# Altium footprint library Connector_Samtec_HLE_THT.PcbLib: 141 footprints (part 5 of 9)
Each footprint in its own frame and in the unit in brackets; x right, y up, seen from the top. Pads: shape width x height; smd on the part's side, far side on the other; paste and mask are expansions set on the pad; w line width, h text height; cw(c..) or ccw(c..) is an arc to the next point about the centre after c.
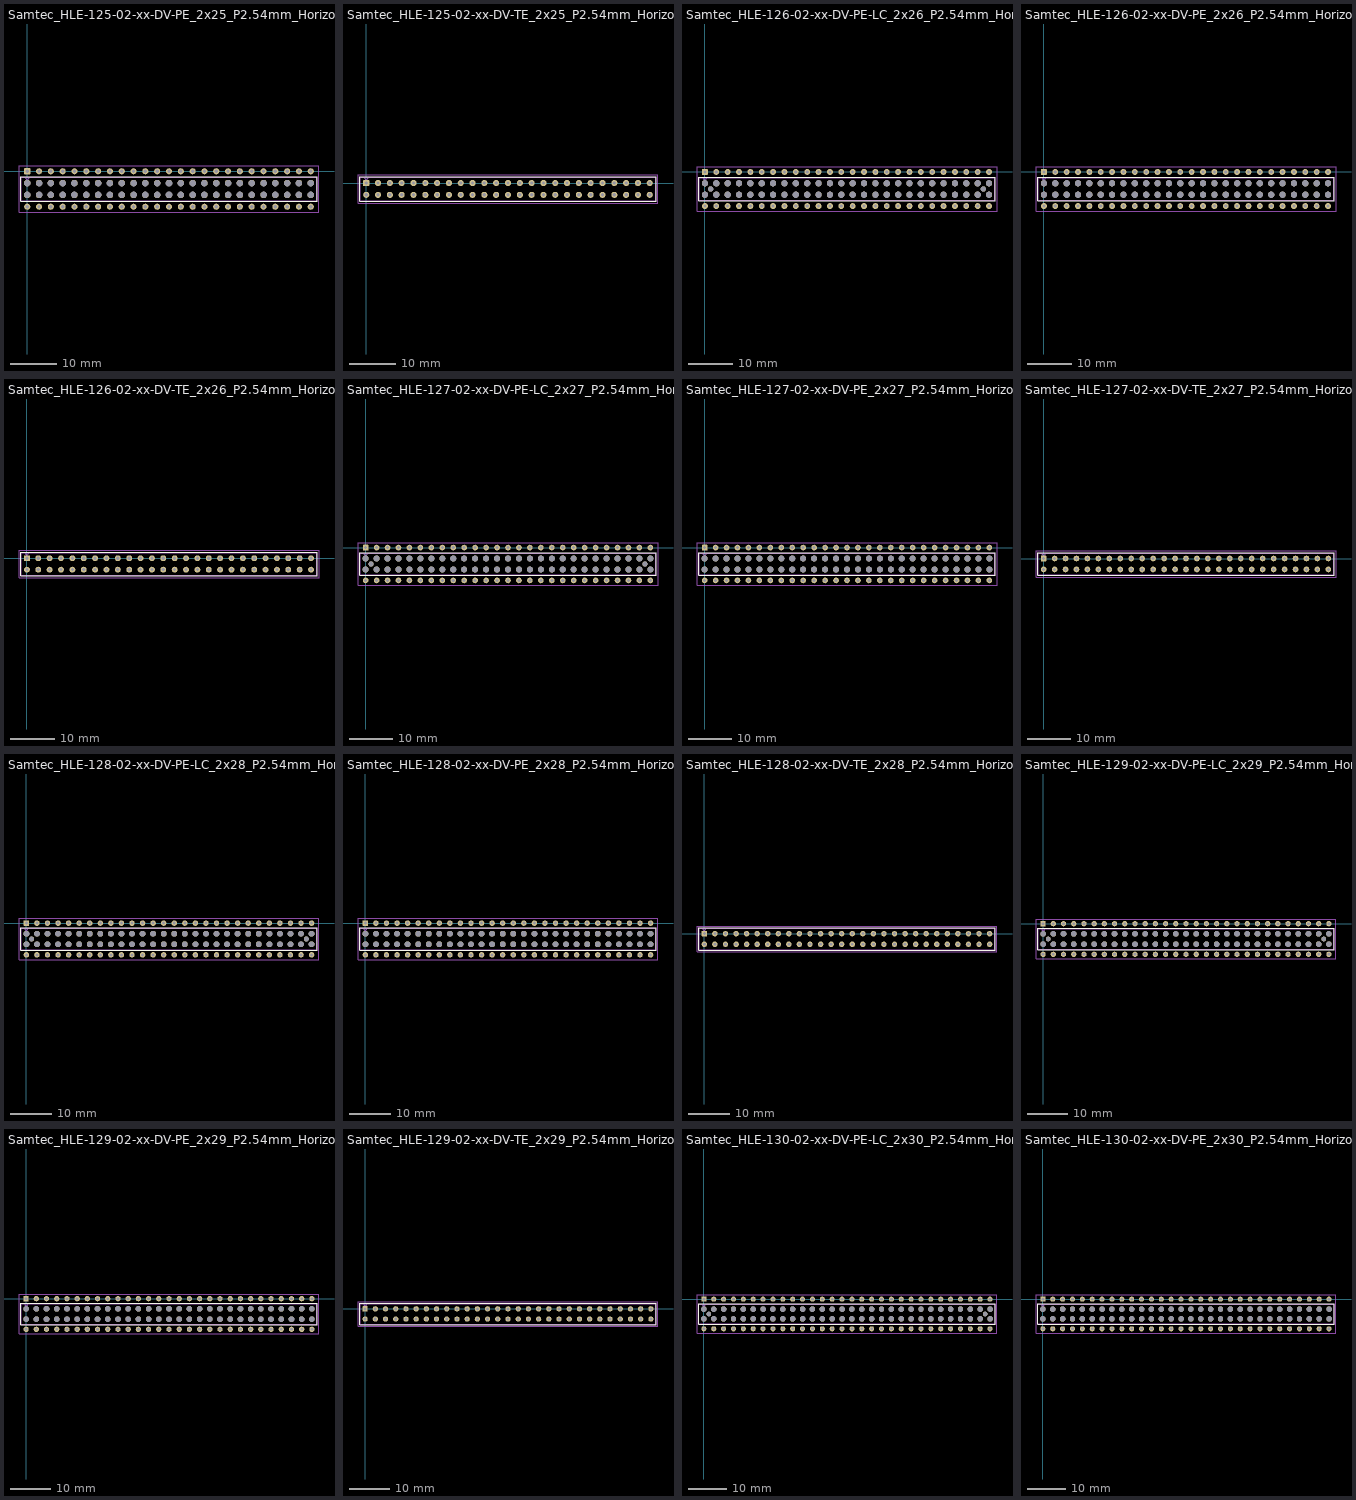
[diagram p4: the footprints below, top view; thin cyan lines are the x and y axes]

## Samtec_HLE-125-02-xx-DV-PE_2x25_P2.54mm_Horizontal [mm]
pads (100):
  rrect19% 1.31x1.31 hole 0.71: 1(0,0)
  round 1.31 hole 0.71: 2(0,-7.62) 3(2.54,0) 4(2.54,-7.62) 5(5.08,0) 6(5.08,-7.62) 7(7.62,0) 8(7.62,-7.62) 9(10.16,0) 10(10.16,-7.62) 11(12.7,0) 12(12.7,-7.62) 13(15.24,0) 14(15.24,-7.62) 15(17.78,0) 16(17.78,-7.62) 17(20.32,0) 18(20.32,-7.62) 19(22.86,0) 20(22.86,-7.62) 21(25.4,0) 22(25.4,-7.62) 23(27.94,0) 24(27.94,-7.62) 25(30.48,0) 26(30.48,-7.62) 27(33.02,0) 28(33.02,-7.62) 29(35.56,0) 30(35.56,-7.62) 31(38.1,0) 32(38.1,-7.62) 33(40.64,0) 34(40.64,-7.62) 35(43.18,0) 36(43.18,-7.62) 37(45.72,0) 38(45.72,-7.62) 39(48.26,0) 40(48.26,-7.62) 41(50.8,0) 42(50.8,-7.62) 43(53.34,0) 44(53.34,-7.62) 45(55.88,0) 46(55.88,-7.62) 47(58.42,0) 48(58.42,-7.62) 49(60.96,0) 50(60.96,-7.62)
  round 1.4 hole 1.4: Un1(0,-2.54) Un2(0,-5.08) Un3(2.54,-2.54) Un4(2.54,-5.08) Un5(5.08,-2.54) Un6(5.08,-5.08) Un7(7.62,-2.54) Un8(7.62,-5.08) Un9(10.16,-2.54) Un10(10.16,-5.08) Un11(12.7,-2.54) Un12(12.7,-5.08) Un13(15.24,-2.54) Un14(15.24,-5.08) Un15(17.78,-2.54) Un16(17.78,-5.08) Un17(20.32,-2.54) Un18(20.32,-5.08) Un19(22.86,-2.54) Un20(22.86,-5.08) Un21(25.4,-2.54) Un22(25.4,-5.08) Un23(27.94,-2.54) Un24(27.94,-5.08) Un25(30.48,-2.54) Un26(30.48,-5.08) Un27(33.02,-2.54) Un28(33.02,-5.08) Un29(35.56,-2.54) Un30(35.56,-5.08) Un31(38.1,-2.54) Un32(38.1,-5.08) Un33(40.64,-2.54) Un34(40.64,-5.08) Un35(43.18,-2.54) Un36(43.18,-5.08) Un37(45.72,-2.54) Un38(45.72,-5.08) Un39(48.26,-2.54) Un40(48.26,-5.08) Un41(50.8,-2.54) Un42(50.8,-5.08) Un43(53.34,-2.54) Un44(53.34,-5.08) Un45(55.88,-2.54) Un46(55.88,-5.08) Un47(58.42,-2.54) Un48(58.42,-5.08) Un49(60.96,-2.54) Un50(60.96,-5.08)
F.SilkS:
  lines w0.254: -1.38,-6.46 62.34,-6.46 62.34,-1.16 -1.38,-1.16 -1.38,-6.46
Top Assembly:
  lines w0.254: -0.5,-1.27 0,-1.977 0.5,-1.27 ; -1.27,-6.35 62.23,-6.35 62.23,-1.27 -1.27,-1.27 -1.27,-6.35
  text "'.Designator'" at 26.433,-6.49 h1
Top Courtyard:
  lines w0.254: -1.77,-8.78 62.73,-8.78 62.73,1.16 -1.77,1.16 -1.77,-8.78
Top Designator:
  text ".Designator" at 22.862,-4.318 h1.52

## Samtec_HLE-125-02-xx-DV-TE_2x25_P2.54mm_Horizontal [mm]
pads (50):
  rrect19% 1.31x1.31 hole 0.71: 1(0,0)
  round 1.31 hole 0.71: 2(0,-2.54) 3(2.54,0) 4(2.54,-2.54) 5(5.08,0) 6(5.08,-2.54) 7(7.62,0) 8(7.62,-2.54) 9(10.16,0) 10(10.16,-2.54) 11(12.7,0) 12(12.7,-2.54) 13(15.24,0) 14(15.24,-2.54) 15(17.78,0) 16(17.78,-2.54) 17(20.32,0) 18(20.32,-2.54) 19(22.86,0) 20(22.86,-2.54) 21(25.4,0) 22(25.4,-2.54) 23(27.94,0) 24(27.94,-2.54) 25(30.48,0) 26(30.48,-2.54) 27(33.02,0) 28(33.02,-2.54) 29(35.56,0) 30(35.56,-2.54) 31(38.1,0) 32(38.1,-2.54) 33(40.64,0) 34(40.64,-2.54) 35(43.18,0) 36(43.18,-2.54) 37(45.72,0) 38(45.72,-2.54) 39(48.26,0) 40(48.26,-2.54) 41(50.8,0) 42(50.8,-2.54) 43(53.34,0) 44(53.34,-2.54) 45(55.88,0) 46(55.88,-2.54) 47(58.42,0) 48(58.42,-2.54) 49(60.96,0) 50(60.96,-2.54)
F.SilkS:
  lines w0.254: -1.38,-3.92 62.34,-3.92 62.34,1.38 -1.38,1.38 -1.38,-3.92
Top Assembly:
  lines w0.254: -0.5,1.27 0,0.563 0.5,1.27 ; -1.27,-3.81 62.23,-3.81 62.23,1.27 -1.27,1.27 -1.27,-3.81
  text "'.Designator'" at 26.433,-3.95 h1
Top Courtyard:
  lines w0.254: -1.77,-4.32 62.73,-4.32 62.73,1.77 -1.77,1.77 -1.77,-4.32
Top Designator:
  text ".Designator" at 22.862,-1.783 h1.52

## Samtec_HLE-126-02-xx-DV-PE-LC_2x26_P2.54mm_Horizontal [mm]
pads (106):
  rrect19% 1.31x1.31 hole 0.71: 1(0,0)
  round 1.31 hole 0.71: 2(0,-7.62) 3(2.54,0) 4(2.54,-7.62) 5(5.08,0) 6(5.08,-7.62) 7(7.62,0) 8(7.62,-7.62) 9(10.16,0) 10(10.16,-7.62) 11(12.7,0) 12(12.7,-7.62) 13(15.24,0) 14(15.24,-7.62) 15(17.78,0) 16(17.78,-7.62) 17(20.32,0) 18(20.32,-7.62) 19(22.86,0) 20(22.86,-7.62) 21(25.4,0) 22(25.4,-7.62) 23(27.94,0) 24(27.94,-7.62) 25(30.48,0) 26(30.48,-7.62) 27(33.02,0) 28(33.02,-7.62) 29(35.56,0) 30(35.56,-7.62) 31(38.1,0) 32(38.1,-7.62) 33(40.64,0) 34(40.64,-7.62) 35(43.18,0) 36(43.18,-7.62) 37(45.72,0) 38(45.72,-7.62) 39(48.26,0) 40(48.26,-7.62) 41(50.8,0) 42(50.8,-7.62) 43(53.34,0) 44(53.34,-7.62) 45(55.88,0) 46(55.88,-7.62) 47(58.42,0) 48(58.42,-7.62) 49(60.96,0) 50(60.96,-7.62) 51(63.5,0) 52(63.5,-7.62)
  round 1.4 hole 1.4: Un1(0,-2.54) Un2(0,-5.08) Un4(2.54,-2.54) Un5(2.54,-5.08) Un6(5.08,-2.54) Un7(5.08,-5.08) Un8(7.62,-2.54) Un9(7.62,-5.08) Un10(10.16,-2.54) Un11(10.16,-5.08) Un12(12.7,-2.54) Un13(12.7,-5.08) Un14(15.24,-2.54) Un15(15.24,-5.08) Un16(17.78,-2.54) Un17(17.78,-5.08) Un18(20.32,-2.54) Un19(20.32,-5.08) Un20(22.86,-2.54) Un21(22.86,-5.08) Un22(25.4,-2.54) Un23(25.4,-5.08) Un24(27.94,-2.54) Un25(27.94,-5.08) Un26(30.48,-2.54) Un27(30.48,-5.08) Un28(33.02,-2.54) Un29(33.02,-5.08) Un30(35.56,-2.54) Un31(35.56,-5.08) Un32(38.1,-2.54) Un33(38.1,-5.08) Un34(40.64,-2.54) Un35(40.64,-5.08) Un36(43.18,-2.54) Un37(43.18,-5.08) Un38(45.72,-2.54) Un39(45.72,-5.08) Un40(48.26,-2.54) Un41(48.26,-5.08) Un42(50.8,-2.54) Un43(50.8,-5.08) Un44(53.34,-2.54) Un45(53.34,-5.08) Un46(55.88,-2.54) Un47(55.88,-5.08) Un48(58.42,-2.54) Un49(58.42,-5.08) Un50(60.96,-2.54) Un51(60.96,-5.08) Un53(63.5,-2.54) Un54(63.5,-5.08)
  round 1.19 hole 1.19: Un3(1.27,-3.81) Un52(62.23,-3.81)
F.SilkS:
  lines w0.254: -1.38,-6.46 64.88,-6.46 64.88,-1.16 -1.38,-1.16 -1.38,-6.46
Top Assembly:
  lines w0.254: -0.5,-1.27 0,-1.977 0.5,-1.27 ; -1.27,-6.35 64.77,-6.35 64.77,-1.27 -1.27,-1.27 -1.27,-6.35
  text "'.Designator'" at 27.703,-6.49 h1
Top Courtyard:
  lines w0.254: -1.77,-8.78 65.28,-8.78 65.28,1.16 -1.77,1.16 -1.77,-8.78
Top Designator:
  text ".Designator" at 24.137,-4.318 h1.52

## Samtec_HLE-126-02-xx-DV-PE_2x26_P2.54mm_Horizontal [mm]
pads (104):
  rrect19% 1.31x1.31 hole 0.71: 1(0,0)
  round 1.31 hole 0.71: 2(0,-7.62) 3(2.54,0) 4(2.54,-7.62) 5(5.08,0) 6(5.08,-7.62) 7(7.62,0) 8(7.62,-7.62) 9(10.16,0) 10(10.16,-7.62) 11(12.7,0) 12(12.7,-7.62) 13(15.24,0) 14(15.24,-7.62) 15(17.78,0) 16(17.78,-7.62) 17(20.32,0) 18(20.32,-7.62) 19(22.86,0) 20(22.86,-7.62) 21(25.4,0) 22(25.4,-7.62) 23(27.94,0) 24(27.94,-7.62) 25(30.48,0) 26(30.48,-7.62) 27(33.02,0) 28(33.02,-7.62) 29(35.56,0) 30(35.56,-7.62) 31(38.1,0) 32(38.1,-7.62) 33(40.64,0) 34(40.64,-7.62) 35(43.18,0) 36(43.18,-7.62) 37(45.72,0) 38(45.72,-7.62) 39(48.26,0) 40(48.26,-7.62) 41(50.8,0) 42(50.8,-7.62) 43(53.34,0) 44(53.34,-7.62) 45(55.88,0) 46(55.88,-7.62) 47(58.42,0) 48(58.42,-7.62) 49(60.96,0) 50(60.96,-7.62) 51(63.5,0) 52(63.5,-7.62)
  round 1.4 hole 1.4: Un1(0,-2.54) Un2(0,-5.08) Un3(2.54,-2.54) Un4(2.54,-5.08) Un5(5.08,-2.54) Un6(5.08,-5.08) Un7(7.62,-2.54) Un8(7.62,-5.08) Un9(10.16,-2.54) Un10(10.16,-5.08) Un11(12.7,-2.54) Un12(12.7,-5.08) Un13(15.24,-2.54) Un14(15.24,-5.08) Un15(17.78,-2.54) Un16(17.78,-5.08) Un17(20.32,-2.54) Un18(20.32,-5.08) Un19(22.86,-2.54) Un20(22.86,-5.08) Un21(25.4,-2.54) Un22(25.4,-5.08) Un23(27.94,-2.54) Un24(27.94,-5.08) Un25(30.48,-2.54) Un26(30.48,-5.08) Un27(33.02,-2.54) Un28(33.02,-5.08) Un29(35.56,-2.54) Un30(35.56,-5.08) Un31(38.1,-2.54) Un32(38.1,-5.08) Un33(40.64,-2.54) Un34(40.64,-5.08) Un35(43.18,-2.54) Un36(43.18,-5.08) Un37(45.72,-2.54) Un38(45.72,-5.08) Un39(48.26,-2.54) Un40(48.26,-5.08) Un41(50.8,-2.54) Un42(50.8,-5.08) Un43(53.34,-2.54) Un44(53.34,-5.08) Un45(55.88,-2.54) Un46(55.88,-5.08) Un47(58.42,-2.54) Un48(58.42,-5.08) Un49(60.96,-2.54) Un50(60.96,-5.08) Un51(63.5,-2.54) Un52(63.5,-5.08)
F.SilkS:
  lines w0.254: -1.38,-6.46 64.88,-6.46 64.88,-1.16 -1.38,-1.16 -1.38,-6.46
Top Assembly:
  lines w0.254: -0.5,-1.27 0,-1.977 0.5,-1.27 ; -1.27,-6.35 64.77,-6.35 64.77,-1.27 -1.27,-1.27 -1.27,-6.35
  text "'.Designator'" at 27.703,-6.49 h1
Top Courtyard:
  lines w0.254: -1.77,-8.78 65.28,-8.78 65.28,1.16 -1.77,1.16 -1.77,-8.78
Top Designator:
  text ".Designator" at 24.137,-4.318 h1.52

## Samtec_HLE-126-02-xx-DV-TE_2x26_P2.54mm_Horizontal [mm]
pads (52):
  rrect19% 1.31x1.31 hole 0.71: 1(0,0)
  round 1.31 hole 0.71: 2(0,-2.54) 3(2.54,0) 4(2.54,-2.54) 5(5.08,0) 6(5.08,-2.54) 7(7.62,0) 8(7.62,-2.54) 9(10.16,0) 10(10.16,-2.54) 11(12.7,0) 12(12.7,-2.54) 13(15.24,0) 14(15.24,-2.54) 15(17.78,0) 16(17.78,-2.54) 17(20.32,0) 18(20.32,-2.54) 19(22.86,0) 20(22.86,-2.54) 21(25.4,0) 22(25.4,-2.54) 23(27.94,0) 24(27.94,-2.54) 25(30.48,0) 26(30.48,-2.54) 27(33.02,0) 28(33.02,-2.54) 29(35.56,0) 30(35.56,-2.54) 31(38.1,0) 32(38.1,-2.54) 33(40.64,0) 34(40.64,-2.54) 35(43.18,0) 36(43.18,-2.54) 37(45.72,0) 38(45.72,-2.54) 39(48.26,0) 40(48.26,-2.54) 41(50.8,0) 42(50.8,-2.54) 43(53.34,0) 44(53.34,-2.54) 45(55.88,0) 46(55.88,-2.54) 47(58.42,0) 48(58.42,-2.54) 49(60.96,0) 50(60.96,-2.54) 51(63.5,0) 52(63.5,-2.54)
F.SilkS:
  lines w0.254: -1.38,-3.92 64.88,-3.92 64.88,1.38 -1.38,1.38 -1.38,-3.92
Top Assembly:
  lines w0.254: -0.5,1.27 0,0.563 0.5,1.27 ; -1.27,-3.81 64.77,-3.81 64.77,1.27 -1.27,1.27 -1.27,-3.81
  text "'.Designator'" at 27.703,-3.95 h1
Top Courtyard:
  lines w0.254: -1.77,-4.32 65.28,-4.32 65.28,1.77 -1.77,1.77 -1.77,-4.32
Top Designator:
  text ".Designator" at 24.137,-1.783 h1.52

## Samtec_HLE-127-02-xx-DV-PE-LC_2x27_P2.54mm_Horizontal [mm]
pads (110):
  rrect19% 1.31x1.31 hole 0.71: 1(0,0)
  round 1.31 hole 0.71: 2(0,-7.62) 3(2.54,0) 4(2.54,-7.62) 5(5.08,0) 6(5.08,-7.62) 7(7.62,0) 8(7.62,-7.62) 9(10.16,0) 10(10.16,-7.62) 11(12.7,0) 12(12.7,-7.62) 13(15.24,0) 14(15.24,-7.62) 15(17.78,0) 16(17.78,-7.62) 17(20.32,0) 18(20.32,-7.62) 19(22.86,0) 20(22.86,-7.62) 21(25.4,0) 22(25.4,-7.62) 23(27.94,0) 24(27.94,-7.62) 25(30.48,0) 26(30.48,-7.62) 27(33.02,0) 28(33.02,-7.62) 29(35.56,0) 30(35.56,-7.62) 31(38.1,0) 32(38.1,-7.62) 33(40.64,0) 34(40.64,-7.62) 35(43.18,0) 36(43.18,-7.62) 37(45.72,0) 38(45.72,-7.62) 39(48.26,0) 40(48.26,-7.62) 41(50.8,0) 42(50.8,-7.62) 43(53.34,0) 44(53.34,-7.62) 45(55.88,0) 46(55.88,-7.62) 47(58.42,0) 48(58.42,-7.62) 49(60.96,0) 50(60.96,-7.62) 51(63.5,0) 52(63.5,-7.62) 53(66.04,0) 54(66.04,-7.62)
  round 1.4 hole 1.4: Un1(0,-2.54) Un2(0,-5.08) Un4(2.54,-2.54) Un5(2.54,-5.08) Un6(5.08,-2.54) Un7(5.08,-5.08) Un8(7.62,-2.54) Un9(7.62,-5.08) Un10(10.16,-2.54) Un11(10.16,-5.08) Un12(12.7,-2.54) Un13(12.7,-5.08) Un14(15.24,-2.54) Un15(15.24,-5.08) Un16(17.78,-2.54) Un17(17.78,-5.08) Un18(20.32,-2.54) Un19(20.32,-5.08) Un20(22.86,-2.54) Un21(22.86,-5.08) Un22(25.4,-2.54) Un23(25.4,-5.08) Un24(27.94,-2.54) Un25(27.94,-5.08) Un26(30.48,-2.54) Un27(30.48,-5.08) Un28(33.02,-2.54) Un29(33.02,-5.08) Un30(35.56,-2.54) Un31(35.56,-5.08) Un32(38.1,-2.54) Un33(38.1,-5.08) Un34(40.64,-2.54) Un35(40.64,-5.08) Un36(43.18,-2.54) Un37(43.18,-5.08) Un38(45.72,-2.54) Un39(45.72,-5.08) Un40(48.26,-2.54) Un41(48.26,-5.08) Un42(50.8,-2.54) Un43(50.8,-5.08) Un44(53.34,-2.54) Un45(53.34,-5.08) Un46(55.88,-2.54) Un47(55.88,-5.08) Un48(58.42,-2.54) Un49(58.42,-5.08) Un50(60.96,-2.54) Un51(60.96,-5.08) Un52(63.5,-2.54) Un53(63.5,-5.08) Un55(66.04,-2.54) Un56(66.04,-5.08)
  round 1.19 hole 1.19: Un3(1.27,-3.81) Un54(64.77,-3.81)
F.SilkS:
  lines w0.254: -1.38,-6.46 67.42,-6.46 67.42,-1.16 -1.38,-1.16 -1.38,-6.46
Top Assembly:
  lines w0.254: -0.5,-1.27 0,-1.977 0.5,-1.27 ; -1.27,-6.35 67.31,-6.35 67.31,-1.27 -1.27,-1.27 -1.27,-6.35
  text "'.Designator'" at 28.973,-6.49 h1
Top Courtyard:
  lines w0.254: -1.77,-8.78 67.81,-8.78 67.81,1.16 -1.77,1.16 -1.77,-8.78
Top Designator:
  text ".Designator" at 25.402,-4.318 h1.52

## Samtec_HLE-127-02-xx-DV-PE_2x27_P2.54mm_Horizontal [mm]
pads (108):
  rrect19% 1.31x1.31 hole 0.71: 1(0,0)
  round 1.31 hole 0.71: 2(0,-7.62) 3(2.54,0) 4(2.54,-7.62) 5(5.08,0) 6(5.08,-7.62) 7(7.62,0) 8(7.62,-7.62) 9(10.16,0) 10(10.16,-7.62) 11(12.7,0) 12(12.7,-7.62) 13(15.24,0) 14(15.24,-7.62) 15(17.78,0) 16(17.78,-7.62) 17(20.32,0) 18(20.32,-7.62) 19(22.86,0) 20(22.86,-7.62) 21(25.4,0) 22(25.4,-7.62) 23(27.94,0) 24(27.94,-7.62) 25(30.48,0) 26(30.48,-7.62) 27(33.02,0) 28(33.02,-7.62) 29(35.56,0) 30(35.56,-7.62) 31(38.1,0) 32(38.1,-7.62) 33(40.64,0) 34(40.64,-7.62) 35(43.18,0) 36(43.18,-7.62) 37(45.72,0) 38(45.72,-7.62) 39(48.26,0) 40(48.26,-7.62) 41(50.8,0) 42(50.8,-7.62) 43(53.34,0) 44(53.34,-7.62) 45(55.88,0) 46(55.88,-7.62) 47(58.42,0) 48(58.42,-7.62) 49(60.96,0) 50(60.96,-7.62) 51(63.5,0) 52(63.5,-7.62) 53(66.04,0) 54(66.04,-7.62)
  round 1.4 hole 1.4: Un1(0,-2.54) Un2(0,-5.08) Un3(2.54,-2.54) Un4(2.54,-5.08) Un5(5.08,-2.54) Un6(5.08,-5.08) Un7(7.62,-2.54) Un8(7.62,-5.08) Un9(10.16,-2.54) Un10(10.16,-5.08) Un11(12.7,-2.54) Un12(12.7,-5.08) Un13(15.24,-2.54) Un14(15.24,-5.08) Un15(17.78,-2.54) Un16(17.78,-5.08) Un17(20.32,-2.54) Un18(20.32,-5.08) Un19(22.86,-2.54) Un20(22.86,-5.08) Un21(25.4,-2.54) Un22(25.4,-5.08) Un23(27.94,-2.54) Un24(27.94,-5.08) Un25(30.48,-2.54) Un26(30.48,-5.08) Un27(33.02,-2.54) Un28(33.02,-5.08) Un29(35.56,-2.54) Un30(35.56,-5.08) Un31(38.1,-2.54) Un32(38.1,-5.08) Un33(40.64,-2.54) Un34(40.64,-5.08) Un35(43.18,-2.54) Un36(43.18,-5.08) Un37(45.72,-2.54) Un38(45.72,-5.08) Un39(48.26,-2.54) Un40(48.26,-5.08) Un41(50.8,-2.54) Un42(50.8,-5.08) Un43(53.34,-2.54) Un44(53.34,-5.08) Un45(55.88,-2.54) Un46(55.88,-5.08) Un47(58.42,-2.54) Un48(58.42,-5.08) Un49(60.96,-2.54) Un50(60.96,-5.08) Un51(63.5,-2.54) Un52(63.5,-5.08) Un53(66.04,-2.54) Un54(66.04,-5.08)
F.SilkS:
  lines w0.254: -1.38,-6.46 67.42,-6.46 67.42,-1.16 -1.38,-1.16 -1.38,-6.46
Top Assembly:
  lines w0.254: -0.5,-1.27 0,-1.977 0.5,-1.27 ; -1.27,-6.35 67.31,-6.35 67.31,-1.27 -1.27,-1.27 -1.27,-6.35
  text "'.Designator'" at 28.973,-6.49 h1
Top Courtyard:
  lines w0.254: -1.77,-8.78 67.81,-8.78 67.81,1.16 -1.77,1.16 -1.77,-8.78
Top Designator:
  text ".Designator" at 25.402,-4.318 h1.52

## Samtec_HLE-127-02-xx-DV-TE_2x27_P2.54mm_Horizontal [mm]
pads (54):
  rrect19% 1.31x1.31 hole 0.71: 1(0,0)
  round 1.31 hole 0.71: 2(0,-2.54) 3(2.54,0) 4(2.54,-2.54) 5(5.08,0) 6(5.08,-2.54) 7(7.62,0) 8(7.62,-2.54) 9(10.16,0) 10(10.16,-2.54) 11(12.7,0) 12(12.7,-2.54) 13(15.24,0) 14(15.24,-2.54) 15(17.78,0) 16(17.78,-2.54) 17(20.32,0) 18(20.32,-2.54) 19(22.86,0) 20(22.86,-2.54) 21(25.4,0) 22(25.4,-2.54) 23(27.94,0) 24(27.94,-2.54) 25(30.48,0) 26(30.48,-2.54) 27(33.02,0) 28(33.02,-2.54) 29(35.56,0) 30(35.56,-2.54) 31(38.1,0) 32(38.1,-2.54) 33(40.64,0) 34(40.64,-2.54) 35(43.18,0) 36(43.18,-2.54) 37(45.72,0) 38(45.72,-2.54) 39(48.26,0) 40(48.26,-2.54) 41(50.8,0) 42(50.8,-2.54) 43(53.34,0) 44(53.34,-2.54) 45(55.88,0) 46(55.88,-2.54) 47(58.42,0) 48(58.42,-2.54) 49(60.96,0) 50(60.96,-2.54) 51(63.5,0) 52(63.5,-2.54) 53(66.04,0) 54(66.04,-2.54)
F.SilkS:
  lines w0.254: -1.38,-3.92 67.42,-3.92 67.42,1.38 -1.38,1.38 -1.38,-3.92
Top Assembly:
  lines w0.254: -0.5,1.27 0,0.563 0.5,1.27 ; -1.27,-3.81 67.31,-3.81 67.31,1.27 -1.27,1.27 -1.27,-3.81
  text "'.Designator'" at 28.973,-3.95 h1
Top Courtyard:
  lines w0.254: -1.77,-4.32 67.81,-4.32 67.81,1.77 -1.77,1.77 -1.77,-4.32
Top Designator:
  text ".Designator" at 25.402,-1.783 h1.52

## Samtec_HLE-128-02-xx-DV-PE-LC_2x28_P2.54mm_Horizontal [mm]
pads (114):
  rrect19% 1.31x1.31 hole 0.71: 1(0,0)
  round 1.31 hole 0.71: 2(0,-7.62) 3(2.54,0) 4(2.54,-7.62) 5(5.08,0) 6(5.08,-7.62) 7(7.62,0) 8(7.62,-7.62) 9(10.16,0) 10(10.16,-7.62) 11(12.7,0) 12(12.7,-7.62) 13(15.24,0) 14(15.24,-7.62) 15(17.78,0) 16(17.78,-7.62) 17(20.32,0) 18(20.32,-7.62) 19(22.86,0) 20(22.86,-7.62) 21(25.4,0) 22(25.4,-7.62) 23(27.94,0) 24(27.94,-7.62) 25(30.48,0) 26(30.48,-7.62) 27(33.02,0) 28(33.02,-7.62) 29(35.56,0) 30(35.56,-7.62) 31(38.1,0) 32(38.1,-7.62) 33(40.64,0) 34(40.64,-7.62) 35(43.18,0) 36(43.18,-7.62) 37(45.72,0) 38(45.72,-7.62) 39(48.26,0) 40(48.26,-7.62) 41(50.8,0) 42(50.8,-7.62) 43(53.34,0) 44(53.34,-7.62) 45(55.88,0) 46(55.88,-7.62) 47(58.42,0) 48(58.42,-7.62) 49(60.96,0) 50(60.96,-7.62) 51(63.5,0) 52(63.5,-7.62) 53(66.04,0) 54(66.04,-7.62) 55(68.58,0) 56(68.58,-7.62)
  round 1.4 hole 1.4: Un1(0,-2.54) Un2(0,-5.08) Un4(2.54,-2.54) Un5(2.54,-5.08) Un6(5.08,-2.54) Un7(5.08,-5.08) Un8(7.62,-2.54) Un9(7.62,-5.08) Un10(10.16,-2.54) Un11(10.16,-5.08) Un12(12.7,-2.54) Un13(12.7,-5.08) Un14(15.24,-2.54) Un15(15.24,-5.08) Un16(17.78,-2.54) Un17(17.78,-5.08) Un18(20.32,-2.54) Un19(20.32,-5.08) Un20(22.86,-2.54) Un21(22.86,-5.08) Un22(25.4,-2.54) Un23(25.4,-5.08) Un24(27.94,-2.54) Un25(27.94,-5.08) Un26(30.48,-2.54) Un27(30.48,-5.08) Un28(33.02,-2.54) Un29(33.02,-5.08) Un30(35.56,-2.54) Un31(35.56,-5.08) Un32(38.1,-2.54) Un33(38.1,-5.08) Un34(40.64,-2.54) Un35(40.64,-5.08) Un36(43.18,-2.54) Un37(43.18,-5.08) Un38(45.72,-2.54) Un39(45.72,-5.08) Un40(48.26,-2.54) Un41(48.26,-5.08) Un42(50.8,-2.54) Un43(50.8,-5.08) Un44(53.34,-2.54) Un45(53.34,-5.08) Un46(55.88,-2.54) Un47(55.88,-5.08) Un48(58.42,-2.54) Un49(58.42,-5.08) Un50(60.96,-2.54) Un51(60.96,-5.08) Un52(63.5,-2.54) Un53(63.5,-5.08) Un54(66.04,-2.54) Un55(66.04,-5.08) Un57(68.58,-2.54) Un58(68.58,-5.08)
  round 1.19 hole 1.19: Un3(1.27,-3.81) Un56(67.31,-3.81)
F.SilkS:
  lines w0.254: -1.38,-6.46 69.96,-6.46 69.96,-1.16 -1.38,-1.16 -1.38,-6.46
Top Assembly:
  lines w0.254: -0.5,-1.27 0,-1.977 0.5,-1.27 ; -1.27,-6.35 69.85,-6.35 69.85,-1.27 -1.27,-1.27 -1.27,-6.35
  text "'.Designator'" at 30.243,-6.49 h1
Top Courtyard:
  lines w0.254: -1.77,-8.78 70.36,-8.78 70.36,1.16 -1.77,1.16 -1.77,-8.78
Top Designator:
  text ".Designator" at 26.677,-4.318 h1.52

## Samtec_HLE-128-02-xx-DV-PE_2x28_P2.54mm_Horizontal [mm]
pads (112):
  rrect19% 1.31x1.31 hole 0.71: 1(0,0)
  round 1.31 hole 0.71: 2(0,-7.62) 3(2.54,0) 4(2.54,-7.62) 5(5.08,0) 6(5.08,-7.62) 7(7.62,0) 8(7.62,-7.62) 9(10.16,0) 10(10.16,-7.62) 11(12.7,0) 12(12.7,-7.62) 13(15.24,0) 14(15.24,-7.62) 15(17.78,0) 16(17.78,-7.62) 17(20.32,0) 18(20.32,-7.62) 19(22.86,0) 20(22.86,-7.62) 21(25.4,0) 22(25.4,-7.62) 23(27.94,0) 24(27.94,-7.62) 25(30.48,0) 26(30.48,-7.62) 27(33.02,0) 28(33.02,-7.62) 29(35.56,0) 30(35.56,-7.62) 31(38.1,0) 32(38.1,-7.62) 33(40.64,0) 34(40.64,-7.62) 35(43.18,0) 36(43.18,-7.62) 37(45.72,0) 38(45.72,-7.62) 39(48.26,0) 40(48.26,-7.62) 41(50.8,0) 42(50.8,-7.62) 43(53.34,0) 44(53.34,-7.62) 45(55.88,0) 46(55.88,-7.62) 47(58.42,0) 48(58.42,-7.62) 49(60.96,0) 50(60.96,-7.62) 51(63.5,0) 52(63.5,-7.62) 53(66.04,0) 54(66.04,-7.62) 55(68.58,0) 56(68.58,-7.62)
  round 1.4 hole 1.4: Un1(0,-2.54) Un2(0,-5.08) Un3(2.54,-2.54) Un4(2.54,-5.08) Un5(5.08,-2.54) Un6(5.08,-5.08) Un7(7.62,-2.54) Un8(7.62,-5.08) Un9(10.16,-2.54) Un10(10.16,-5.08) Un11(12.7,-2.54) Un12(12.7,-5.08) Un13(15.24,-2.54) Un14(15.24,-5.08) Un15(17.78,-2.54) Un16(17.78,-5.08) Un17(20.32,-2.54) Un18(20.32,-5.08) Un19(22.86,-2.54) Un20(22.86,-5.08) Un21(25.4,-2.54) Un22(25.4,-5.08) Un23(27.94,-2.54) Un24(27.94,-5.08) Un25(30.48,-2.54) Un26(30.48,-5.08) Un27(33.02,-2.54) Un28(33.02,-5.08) Un29(35.56,-2.54) Un30(35.56,-5.08) Un31(38.1,-2.54) Un32(38.1,-5.08) Un33(40.64,-2.54) Un34(40.64,-5.08) Un35(43.18,-2.54) Un36(43.18,-5.08) Un37(45.72,-2.54) Un38(45.72,-5.08) Un39(48.26,-2.54) Un40(48.26,-5.08) Un41(50.8,-2.54) Un42(50.8,-5.08) Un43(53.34,-2.54) Un44(53.34,-5.08) Un45(55.88,-2.54) Un46(55.88,-5.08) Un47(58.42,-2.54) Un48(58.42,-5.08) Un49(60.96,-2.54) Un50(60.96,-5.08) Un51(63.5,-2.54) Un52(63.5,-5.08) Un53(66.04,-2.54) Un54(66.04,-5.08) Un55(68.58,-2.54) Un56(68.58,-5.08)
F.SilkS:
  lines w0.254: -1.38,-6.46 69.96,-6.46 69.96,-1.16 -1.38,-1.16 -1.38,-6.46
Top Assembly:
  lines w0.254: -0.5,-1.27 0,-1.977 0.5,-1.27 ; -1.27,-6.35 69.85,-6.35 69.85,-1.27 -1.27,-1.27 -1.27,-6.35
  text "'.Designator'" at 30.243,-6.49 h1
Top Courtyard:
  lines w0.254: -1.77,-8.78 70.36,-8.78 70.36,1.16 -1.77,1.16 -1.77,-8.78
Top Designator:
  text ".Designator" at 26.677,-4.318 h1.52

## Samtec_HLE-128-02-xx-DV-TE_2x28_P2.54mm_Horizontal [mm]
pads (56):
  rrect19% 1.31x1.31 hole 0.71: 1(0,0)
  round 1.31 hole 0.71: 2(0,-2.54) 3(2.54,0) 4(2.54,-2.54) 5(5.08,0) 6(5.08,-2.54) 7(7.62,0) 8(7.62,-2.54) 9(10.16,0) 10(10.16,-2.54) 11(12.7,0) 12(12.7,-2.54) 13(15.24,0) 14(15.24,-2.54) 15(17.78,0) 16(17.78,-2.54) 17(20.32,0) 18(20.32,-2.54) 19(22.86,0) 20(22.86,-2.54) 21(25.4,0) 22(25.4,-2.54) 23(27.94,0) 24(27.94,-2.54) 25(30.48,0) 26(30.48,-2.54) 27(33.02,0) 28(33.02,-2.54) 29(35.56,0) 30(35.56,-2.54) 31(38.1,0) 32(38.1,-2.54) 33(40.64,0) 34(40.64,-2.54) 35(43.18,0) 36(43.18,-2.54) 37(45.72,0) 38(45.72,-2.54) 39(48.26,0) 40(48.26,-2.54) 41(50.8,0) 42(50.8,-2.54) 43(53.34,0) 44(53.34,-2.54) 45(55.88,0) 46(55.88,-2.54) 47(58.42,0) 48(58.42,-2.54) 49(60.96,0) 50(60.96,-2.54) 51(63.5,0) 52(63.5,-2.54) 53(66.04,0) 54(66.04,-2.54) 55(68.58,0) 56(68.58,-2.54)
F.SilkS:
  lines w0.254: -1.38,-3.92 69.96,-3.92 69.96,1.38 -1.38,1.38 -1.38,-3.92
Top Assembly:
  lines w0.254: -0.5,1.27 0,0.563 0.5,1.27 ; -1.27,-3.81 69.85,-3.81 69.85,1.27 -1.27,1.27 -1.27,-3.81
  text "'.Designator'" at 30.243,-3.95 h1
Top Courtyard:
  lines w0.254: -1.77,-4.32 70.36,-4.32 70.36,1.77 -1.77,1.77 -1.77,-4.32
Top Designator:
  text ".Designator" at 26.677,-1.783 h1.52

## Samtec_HLE-129-02-xx-DV-PE-LC_2x29_P2.54mm_Horizontal [mm]
pads (118):
  rrect19% 1.31x1.31 hole 0.71: 1(0,0)
  round 1.31 hole 0.71: 2(0,-7.62) 3(2.54,0) 4(2.54,-7.62) 5(5.08,0) 6(5.08,-7.62) 7(7.62,0) 8(7.62,-7.62) 9(10.16,0) 10(10.16,-7.62) 11(12.7,0) 12(12.7,-7.62) 13(15.24,0) 14(15.24,-7.62) 15(17.78,0) 16(17.78,-7.62) 17(20.32,0) 18(20.32,-7.62) 19(22.86,0) 20(22.86,-7.62) 21(25.4,0) 22(25.4,-7.62) 23(27.94,0) 24(27.94,-7.62) 25(30.48,0) 26(30.48,-7.62) 27(33.02,0) 28(33.02,-7.62) 29(35.56,0) 30(35.56,-7.62) 31(38.1,0) 32(38.1,-7.62) 33(40.64,0) 34(40.64,-7.62) 35(43.18,0) 36(43.18,-7.62) 37(45.72,0) 38(45.72,-7.62) 39(48.26,0) 40(48.26,-7.62) 41(50.8,0) 42(50.8,-7.62) 43(53.34,0) 44(53.34,-7.62) 45(55.88,0) 46(55.88,-7.62) 47(58.42,0) 48(58.42,-7.62) 49(60.96,0) 50(60.96,-7.62) 51(63.5,0) 52(63.5,-7.62) 53(66.04,0) 54(66.04,-7.62) 55(68.58,0) 56(68.58,-7.62) 57(71.12,0) 58(71.12,-7.62)
  round 1.4 hole 1.4: Un1(0,-2.54) Un2(0,-5.08) Un4(2.54,-2.54) Un5(2.54,-5.08) Un6(5.08,-2.54) Un7(5.08,-5.08) Un8(7.62,-2.54) Un9(7.62,-5.08) Un10(10.16,-2.54) Un11(10.16,-5.08) Un12(12.7,-2.54) Un13(12.7,-5.08) Un14(15.24,-2.54) Un15(15.24,-5.08) Un16(17.78,-2.54) Un17(17.78,-5.08) Un18(20.32,-2.54) Un19(20.32,-5.08) Un20(22.86,-2.54) Un21(22.86,-5.08) Un22(25.4,-2.54) Un23(25.4,-5.08) Un24(27.94,-2.54) Un25(27.94,-5.08) Un26(30.48,-2.54) Un27(30.48,-5.08) Un28(33.02,-2.54) Un29(33.02,-5.08) Un30(35.56,-2.54) Un31(35.56,-5.08) Un32(38.1,-2.54) Un33(38.1,-5.08) Un34(40.64,-2.54) Un35(40.64,-5.08) Un36(43.18,-2.54) Un37(43.18,-5.08) Un38(45.72,-2.54) Un39(45.72,-5.08) Un40(48.26,-2.54) Un41(48.26,-5.08) Un42(50.8,-2.54) Un43(50.8,-5.08) Un44(53.34,-2.54) Un45(53.34,-5.08) Un46(55.88,-2.54) Un47(55.88,-5.08) Un48(58.42,-2.54) Un49(58.42,-5.08) Un50(60.96,-2.54) Un51(60.96,-5.08) Un52(63.5,-2.54) Un53(63.5,-5.08) Un54(66.04,-2.54) Un55(66.04,-5.08) Un56(68.58,-2.54) Un57(68.58,-5.08) Un59(71.12,-2.54) Un60(71.12,-5.08)
  round 1.19 hole 1.19: Un3(1.27,-3.81) Un58(69.85,-3.81)
F.SilkS:
  lines w0.254: -1.38,-6.46 72.5,-6.46 72.5,-1.16 -1.38,-1.16 -1.38,-6.46
Top Assembly:
  lines w0.254: -0.5,-1.27 0,-1.977 0.5,-1.27 ; -1.27,-6.35 72.39,-6.35 72.39,-1.27 -1.27,-1.27 -1.27,-6.35
  text "'.Designator'" at 31.513,-6.49 h1
Top Courtyard:
  lines w0.254: -1.77,-8.78 72.89,-8.78 72.89,1.16 -1.77,1.16 -1.77,-8.78
Top Designator:
  text ".Designator" at 27.942,-4.318 h1.52

## Samtec_HLE-129-02-xx-DV-PE_2x29_P2.54mm_Horizontal [mm]
pads (116):
  rrect19% 1.31x1.31 hole 0.71: 1(0,0)
  round 1.31 hole 0.71: 2(0,-7.62) 3(2.54,0) 4(2.54,-7.62) 5(5.08,0) 6(5.08,-7.62) 7(7.62,0) 8(7.62,-7.62) 9(10.16,0) 10(10.16,-7.62) 11(12.7,0) 12(12.7,-7.62) 13(15.24,0) 14(15.24,-7.62) 15(17.78,0) 16(17.78,-7.62) 17(20.32,0) 18(20.32,-7.62) 19(22.86,0) 20(22.86,-7.62) 21(25.4,0) 22(25.4,-7.62) 23(27.94,0) 24(27.94,-7.62) 25(30.48,0) 26(30.48,-7.62) 27(33.02,0) 28(33.02,-7.62) 29(35.56,0) 30(35.56,-7.62) 31(38.1,0) 32(38.1,-7.62) 33(40.64,0) 34(40.64,-7.62) 35(43.18,0) 36(43.18,-7.62) 37(45.72,0) 38(45.72,-7.62) 39(48.26,0) 40(48.26,-7.62) 41(50.8,0) 42(50.8,-7.62) 43(53.34,0) 44(53.34,-7.62) 45(55.88,0) 46(55.88,-7.62) 47(58.42,0) 48(58.42,-7.62) 49(60.96,0) 50(60.96,-7.62) 51(63.5,0) 52(63.5,-7.62) 53(66.04,0) 54(66.04,-7.62) 55(68.58,0) 56(68.58,-7.62) 57(71.12,0) 58(71.12,-7.62)
  round 1.4 hole 1.4: Un1(0,-2.54) Un2(0,-5.08) Un3(2.54,-2.54) Un4(2.54,-5.08) Un5(5.08,-2.54) Un6(5.08,-5.08) Un7(7.62,-2.54) Un8(7.62,-5.08) Un9(10.16,-2.54) Un10(10.16,-5.08) Un11(12.7,-2.54) Un12(12.7,-5.08) Un13(15.24,-2.54) Un14(15.24,-5.08) Un15(17.78,-2.54) Un16(17.78,-5.08) Un17(20.32,-2.54) Un18(20.32,-5.08) Un19(22.86,-2.54) Un20(22.86,-5.08) Un21(25.4,-2.54) Un22(25.4,-5.08) Un23(27.94,-2.54) Un24(27.94,-5.08) Un25(30.48,-2.54) Un26(30.48,-5.08) Un27(33.02,-2.54) Un28(33.02,-5.08) Un29(35.56,-2.54) Un30(35.56,-5.08) Un31(38.1,-2.54) Un32(38.1,-5.08) Un33(40.64,-2.54) Un34(40.64,-5.08) Un35(43.18,-2.54) Un36(43.18,-5.08) Un37(45.72,-2.54) Un38(45.72,-5.08) Un39(48.26,-2.54) Un40(48.26,-5.08) Un41(50.8,-2.54) Un42(50.8,-5.08) Un43(53.34,-2.54) Un44(53.34,-5.08) Un45(55.88,-2.54) Un46(55.88,-5.08) Un47(58.42,-2.54) Un48(58.42,-5.08) Un49(60.96,-2.54) Un50(60.96,-5.08) Un51(63.5,-2.54) Un52(63.5,-5.08) Un53(66.04,-2.54) Un54(66.04,-5.08) Un55(68.58,-2.54) Un56(68.58,-5.08) Un57(71.12,-2.54) Un58(71.12,-5.08)
F.SilkS:
  lines w0.254: -1.38,-6.46 72.5,-6.46 72.5,-1.16 -1.38,-1.16 -1.38,-6.46
Top Assembly:
  lines w0.254: -0.5,-1.27 0,-1.977 0.5,-1.27 ; -1.27,-6.35 72.39,-6.35 72.39,-1.27 -1.27,-1.27 -1.27,-6.35
  text "'.Designator'" at 31.513,-6.49 h1
Top Courtyard:
  lines w0.254: -1.77,-8.78 72.89,-8.78 72.89,1.16 -1.77,1.16 -1.77,-8.78
Top Designator:
  text ".Designator" at 27.942,-4.318 h1.52

## Samtec_HLE-129-02-xx-DV-TE_2x29_P2.54mm_Horizontal [mm]
pads (58):
  rrect19% 1.31x1.31 hole 0.71: 1(0,0)
  round 1.31 hole 0.71: 2(0,-2.54) 3(2.54,0) 4(2.54,-2.54) 5(5.08,0) 6(5.08,-2.54) 7(7.62,0) 8(7.62,-2.54) 9(10.16,0) 10(10.16,-2.54) 11(12.7,0) 12(12.7,-2.54) 13(15.24,0) 14(15.24,-2.54) 15(17.78,0) 16(17.78,-2.54) 17(20.32,0) 18(20.32,-2.54) 19(22.86,0) 20(22.86,-2.54) 21(25.4,0) 22(25.4,-2.54) 23(27.94,0) 24(27.94,-2.54) 25(30.48,0) 26(30.48,-2.54) 27(33.02,0) 28(33.02,-2.54) 29(35.56,0) 30(35.56,-2.54) 31(38.1,0) 32(38.1,-2.54) 33(40.64,0) 34(40.64,-2.54) 35(43.18,0) 36(43.18,-2.54) 37(45.72,0) 38(45.72,-2.54) 39(48.26,0) 40(48.26,-2.54) 41(50.8,0) 42(50.8,-2.54) 43(53.34,0) 44(53.34,-2.54) 45(55.88,0) 46(55.88,-2.54) 47(58.42,0) 48(58.42,-2.54) 49(60.96,0) 50(60.96,-2.54) 51(63.5,0) 52(63.5,-2.54) 53(66.04,0) 54(66.04,-2.54) 55(68.58,0) 56(68.58,-2.54) 57(71.12,0) 58(71.12,-2.54)
F.SilkS:
  lines w0.254: -1.38,-3.92 72.5,-3.92 72.5,1.38 -1.38,1.38 -1.38,-3.92
Top Assembly:
  lines w0.254: -0.5,1.27 0,0.563 0.5,1.27 ; -1.27,-3.81 72.39,-3.81 72.39,1.27 -1.27,1.27 -1.27,-3.81
  text "'.Designator'" at 31.513,-3.95 h1
Top Courtyard:
  lines w0.254: -1.77,-4.32 72.89,-4.32 72.89,1.77 -1.77,1.77 -1.77,-4.32
Top Designator:
  text ".Designator" at 27.942,-1.783 h1.52

## Samtec_HLE-130-02-xx-DV-PE-LC_2x30_P2.54mm_Horizontal [mm]
pads (122):
  rrect19% 1.31x1.31 hole 0.71: 1(0,0)
  round 1.31 hole 0.71: 2(0,-7.62) 3(2.54,0) 4(2.54,-7.62) 5(5.08,0) 6(5.08,-7.62) 7(7.62,0) 8(7.62,-7.62) 9(10.16,0) 10(10.16,-7.62) 11(12.7,0) 12(12.7,-7.62) 13(15.24,0) 14(15.24,-7.62) 15(17.78,0) 16(17.78,-7.62) 17(20.32,0) 18(20.32,-7.62) 19(22.86,0) 20(22.86,-7.62) 21(25.4,0) 22(25.4,-7.62) 23(27.94,0) 24(27.94,-7.62) 25(30.48,0) 26(30.48,-7.62) 27(33.02,0) 28(33.02,-7.62) 29(35.56,0) 30(35.56,-7.62) 31(38.1,0) 32(38.1,-7.62) 33(40.64,0) 34(40.64,-7.62) 35(43.18,0) 36(43.18,-7.62) 37(45.72,0) 38(45.72,-7.62) 39(48.26,0) 40(48.26,-7.62) 41(50.8,0) 42(50.8,-7.62) 43(53.34,0) 44(53.34,-7.62) 45(55.88,0) 46(55.88,-7.62) 47(58.42,0) 48(58.42,-7.62) 49(60.96,0) 50(60.96,-7.62) 51(63.5,0) 52(63.5,-7.62) 53(66.04,0) 54(66.04,-7.62) 55(68.58,0) 56(68.58,-7.62) 57(71.12,0) 58(71.12,-7.62) 59(73.66,0) 60(73.66,-7.62)
  round 1.4 hole 1.4: Un1(0,-2.54) Un2(0,-5.08) Un4(2.54,-2.54) Un5(2.54,-5.08) Un6(5.08,-2.54) Un7(5.08,-5.08) Un8(7.62,-2.54) Un9(7.62,-5.08) Un10(10.16,-2.54) Un11(10.16,-5.08) Un12(12.7,-2.54) Un13(12.7,-5.08) Un14(15.24,-2.54) Un15(15.24,-5.08) Un16(17.78,-2.54) Un17(17.78,-5.08) Un18(20.32,-2.54) Un19(20.32,-5.08) Un20(22.86,-2.54) Un21(22.86,-5.08) Un22(25.4,-2.54) Un23(25.4,-5.08) Un24(27.94,-2.54) Un25(27.94,-5.08) Un26(30.48,-2.54) Un27(30.48,-5.08) Un28(33.02,-2.54) Un29(33.02,-5.08) Un30(35.56,-2.54) Un31(35.56,-5.08) Un32(38.1,-2.54) Un33(38.1,-5.08) Un34(40.64,-2.54) Un35(40.64,-5.08) Un36(43.18,-2.54) Un37(43.18,-5.08) Un38(45.72,-2.54) Un39(45.72,-5.08) Un40(48.26,-2.54) Un41(48.26,-5.08) Un42(50.8,-2.54) Un43(50.8,-5.08) Un44(53.34,-2.54) Un45(53.34,-5.08) Un46(55.88,-2.54) Un47(55.88,-5.08) Un48(58.42,-2.54) Un49(58.42,-5.08) Un50(60.96,-2.54) Un51(60.96,-5.08) Un52(63.5,-2.54) Un53(63.5,-5.08) Un54(66.04,-2.54) Un55(66.04,-5.08) Un56(68.58,-2.54) Un57(68.58,-5.08) Un58(71.12,-2.54) Un59(71.12,-5.08) Un61(73.66,-2.54) Un62(73.66,-5.08)
  round 1.19 hole 1.19: Un3(1.27,-3.81) Un60(72.39,-3.81)
F.SilkS:
  lines w0.254: -1.38,-6.46 75.04,-6.46 75.04,-1.16 -1.38,-1.16 -1.38,-6.46
Top Assembly:
  lines w0.254: -0.5,-1.27 0,-1.977 0.5,-1.27 ; -1.27,-6.35 74.93,-6.35 74.93,-1.27 -1.27,-1.27 -1.27,-6.35
  text "'.Designator'" at 32.783,-6.49 h1
Top Courtyard:
  lines w0.254: -1.77,-8.78 75.44,-8.78 75.44,1.16 -1.77,1.16 -1.77,-8.78
Top Designator:
  text ".Designator" at 29.217,-4.318 h1.52

## Samtec_HLE-130-02-xx-DV-PE_2x30_P2.54mm_Horizontal [mm]
pads (120):
  rrect19% 1.31x1.31 hole 0.71: 1(0,0)
  round 1.31 hole 0.71: 2(0,-7.62) 3(2.54,0) 4(2.54,-7.62) 5(5.08,0) 6(5.08,-7.62) 7(7.62,0) 8(7.62,-7.62) 9(10.16,0) 10(10.16,-7.62) 11(12.7,0) 12(12.7,-7.62) 13(15.24,0) 14(15.24,-7.62) 15(17.78,0) 16(17.78,-7.62) 17(20.32,0) 18(20.32,-7.62) 19(22.86,0) 20(22.86,-7.62) 21(25.4,0) 22(25.4,-7.62) 23(27.94,0) 24(27.94,-7.62) 25(30.48,0) 26(30.48,-7.62) 27(33.02,0) 28(33.02,-7.62) 29(35.56,0) 30(35.56,-7.62) 31(38.1,0) 32(38.1,-7.62) 33(40.64,0) 34(40.64,-7.62) 35(43.18,0) 36(43.18,-7.62) 37(45.72,0) 38(45.72,-7.62) 39(48.26,0) 40(48.26,-7.62) 41(50.8,0) 42(50.8,-7.62) 43(53.34,0) 44(53.34,-7.62) 45(55.88,0) 46(55.88,-7.62) 47(58.42,0) 48(58.42,-7.62) 49(60.96,0) 50(60.96,-7.62) 51(63.5,0) 52(63.5,-7.62) 53(66.04,0) 54(66.04,-7.62) 55(68.58,0) 56(68.58,-7.62) 57(71.12,0) 58(71.12,-7.62) 59(73.66,0) 60(73.66,-7.62)
  round 1.4 hole 1.4: Un1(0,-2.54) Un2(0,-5.08) Un3(2.54,-2.54) Un4(2.54,-5.08) Un5(5.08,-2.54) Un6(5.08,-5.08) Un7(7.62,-2.54) Un8(7.62,-5.08) Un9(10.16,-2.54) Un10(10.16,-5.08) Un11(12.7,-2.54) Un12(12.7,-5.08) Un13(15.24,-2.54) Un14(15.24,-5.08) Un15(17.78,-2.54) Un16(17.78,-5.08) Un17(20.32,-2.54) Un18(20.32,-5.08) Un19(22.86,-2.54) Un20(22.86,-5.08) Un21(25.4,-2.54) Un22(25.4,-5.08) Un23(27.94,-2.54) Un24(27.94,-5.08) Un25(30.48,-2.54) Un26(30.48,-5.08) Un27(33.02,-2.54) Un28(33.02,-5.08) Un29(35.56,-2.54) Un30(35.56,-5.08) Un31(38.1,-2.54) Un32(38.1,-5.08) Un33(40.64,-2.54) Un34(40.64,-5.08) Un35(43.18,-2.54) Un36(43.18,-5.08) Un37(45.72,-2.54) Un38(45.72,-5.08) Un39(48.26,-2.54) Un40(48.26,-5.08) Un41(50.8,-2.54) Un42(50.8,-5.08) Un43(53.34,-2.54) Un44(53.34,-5.08) Un45(55.88,-2.54) Un46(55.88,-5.08) Un47(58.42,-2.54) Un48(58.42,-5.08) Un49(60.96,-2.54) Un50(60.96,-5.08) Un51(63.5,-2.54) Un52(63.5,-5.08) Un53(66.04,-2.54) Un54(66.04,-5.08) Un55(68.58,-2.54) Un56(68.58,-5.08) Un57(71.12,-2.54) Un58(71.12,-5.08) Un59(73.66,-2.54) Un60(73.66,-5.08)
F.SilkS:
  lines w0.254: -1.38,-6.46 75.04,-6.46 75.04,-1.16 -1.38,-1.16 -1.38,-6.46
Top Assembly:
  lines w0.254: -0.5,-1.27 0,-1.977 0.5,-1.27 ; -1.27,-6.35 74.93,-6.35 74.93,-1.27 -1.27,-1.27 -1.27,-6.35
  text "'.Designator'" at 32.783,-6.49 h1
Top Courtyard:
  lines w0.254: -1.77,-8.78 75.44,-8.78 75.44,1.16 -1.77,1.16 -1.77,-8.78
Top Designator:
  text ".Designator" at 29.217,-4.318 h1.52